# Altium integrated library Atmel Communication ICs.IntLib: 82 symbols (part 1 of 3)
Pins are listed as number, name and electrical type; pins without a type are passive.

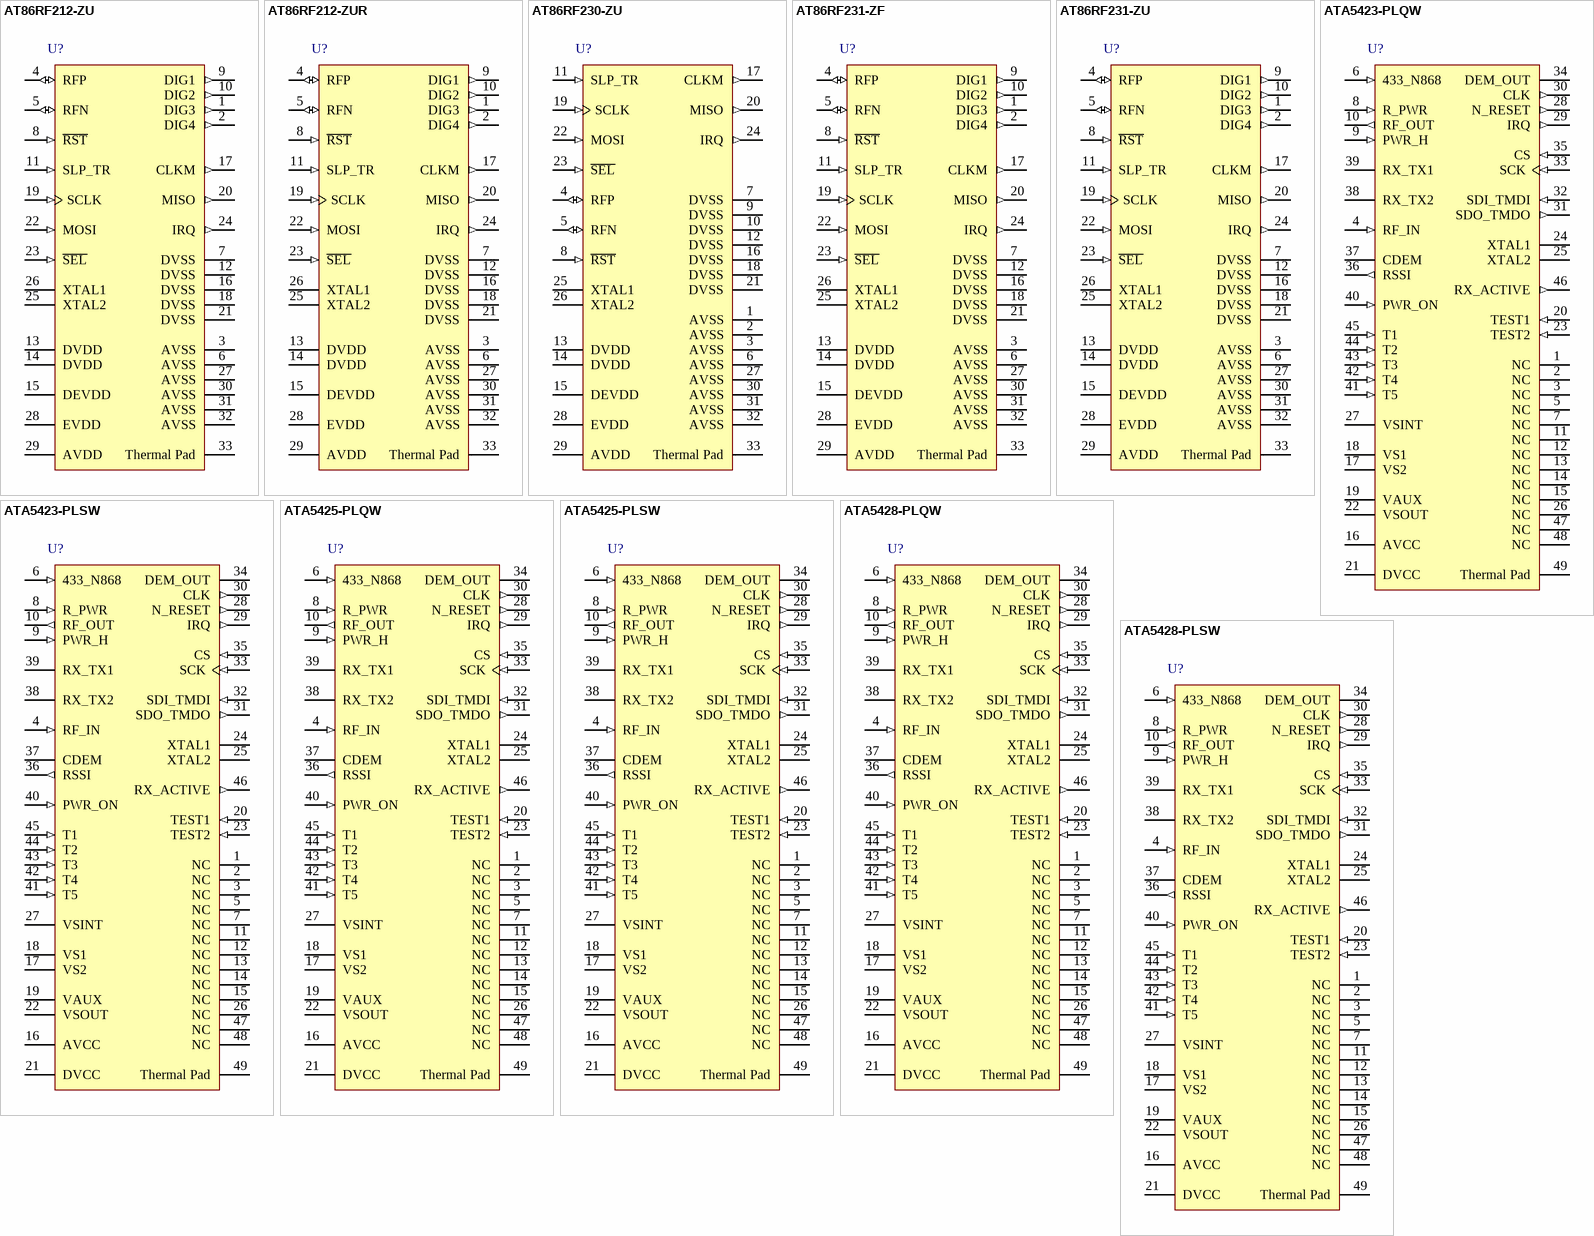
[diagram p0: symbols AT86RF212-ZU to ATA5428-PLSW]

## AT86RF212-ZU
designator U?
AVR Low Power 700/800/900 MHz Transceiver, 32-Pin QFN Pkg, Industrial Temp, Tray, Pb-Free, Halogen-Free; Published: 20-Sep-2010; DatasheetVersion: revC, Feb-2010; PackageVersion: revA, Nov-2007; PackageReference: 32QN2; Publisher: Altium Limited; PackageDescription: 32-Pin Quad Flat No-Lead (QFN) Sawn,  5 x 5 x 1.0 mm Body, Pitch 0.50 mm, 3.10mm Exposed Pad; Supplier 1: Digi-Key; Supplier Part Number 1: AT86RF212-ZU-ND; Supplier 2: Farnell; Supplier Part Number 2: 1748492; Supplier 3: Mouser; Supplier Part Number 3: 556-AT86RF212-ZU; Code_JEDEC: MO-220VHHD-6; ComponentLink1Description: AT86RF212 Datasheet; ComponentLink1URL: http://www.atmel.com/dyn/resources/prod_documents/doc8168.pdf; ComponentLink2Description: Atmel.com Home; ComponentLink2URL: http://www.atmel.com
footprint 32QN2_N (QFN, 32-Leads, Body 5x5mm, Pitch 0.5mm, IPC Medium Density)
footprint 32QN2_L (QFN, 32-Leads, Body 5x5mm, Pitch 0.5mm, IPC High Density)
footprint 32QN2_M (QFN, 32-Leads, Body 5x5mm, Pitch 0.5mm, IPC Low Density)
pins: 1 DIG3 (out), 2 DIG4 (out), 3 AVSS (power), 4 RFP (io), 5 RFN (io), 6 AVSS (power), 7 DVSS (power), 8 ~{RST} (in), 9 DIG1 (out), 10 DIG2 (out), 11 SLP_TR (in), 12 DVSS (power), 13 DVDD (power), 14 DVDD (power), 15 DEVDD (power), 16 DVSS (power), 17 CLKM (out), 18 DVSS (power), 19 SCLK (in), 20 MISO (out), 21 DVSS (power), 22 MOSI (in), 23 ~{SEL} (in), 24 IRQ (out), 25 XTAL2, 26 XTAL1, 27 AVSS (power), 28 EVDD (power), 29 AVDD (power), 30 AVSS (power), 31 AVSS (power), 32 AVSS (power), 33 Thermal Pad (power)

## AT86RF212-ZUR
designator U?
AVR Low Power 700/800/900 MHz Transceiver, 32-Pin QFN Pkg, Industrial Temp, Tape and Reel, Pb-Free, Halogen-Free, 5000 pcs; Published: 20-Sep-2010; DatasheetVersion: revC, Feb-2010; PackageVersion: revA, Nov-2007; PackageReference: 32QN2; Publisher: Altium Limited; PackageDescription: 32-Pin Quad Flat No-Lead (QFN) Sawn,  5 x 5 x 1.0 mm Body, Pitch 0.50 mm, 3.10mm Exposed Pad; Supplier 1: Digi-Key; Supplier Part Number 1: AT86RF212-ZUR-ND; Supplier 2: Mouser; Supplier Part Number 2: 556-AT86RF212-ZUR; Code_JEDEC: MO-220VHHD-6; ComponentLink1Description: AT86RF212 Datasheet; ComponentLink1URL: http://www.atmel.com/dyn/resources/prod_documents/doc8168.pdf; ComponentLink2Description: Atmel.com Home; ComponentLink2URL: http://www.atmel.com
footprint 32QN2_N (QFN, 32-Leads, Body 5x5mm, Pitch 0.5mm, IPC Medium Density)
footprint 32QN2_L (QFN, 32-Leads, Body 5x5mm, Pitch 0.5mm, IPC High Density)
footprint 32QN2_M (QFN, 32-Leads, Body 5x5mm, Pitch 0.5mm, IPC Low Density)
pins: 1 DIG3 (out), 2 DIG4 (out), 3 AVSS (power), 4 RFP (io), 5 RFN (io), 6 AVSS (power), 7 DVSS (power), 8 ~{RST} (in), 9 DIG1 (out), 10 DIG2 (out), 11 SLP_TR (in), 12 DVSS (power), 13 DVDD (power), 14 DVDD (power), 15 DEVDD (power), 16 DVSS (power), 17 CLKM (out), 18 DVSS (power), 19 SCLK (in), 20 MISO (out), 21 DVSS (power), 22 MOSI (in), 23 ~{SEL} (in), 24 IRQ (out), 25 XTAL2, 26 XTAL1, 27 AVSS (power), 28 EVDD (power), 29 AVDD (power), 30 AVSS (power), 31 AVSS (power), 32 AVSS (power), 33 Thermal Pad (power)

## AT86RF230-ZU
designator U?
AVR Low Power 2.4 GHz Transceiver, 32-Pin QFN Pkg, Industrial Temp, Tape and Reel, Pb-Free, Halogen-Free, 5000 pcs; Published: 20-Sep-2010; DatasheetVersion: revE, Feb-2009; PackageVersion: revA, Nov-2007; PackageReference: 32QN2; Publisher: Altium Limited; PackageDescription: 32-Pin Quad Flat No-Lead (QFN) Sawn,  5 x 5 x 1.0 mm Body, Pitch 0.50 mm, 3.10mm Exposed Pad; Supplier 1: Digi-Key; Supplier Part Number 1: AT86RF230-ZU-ND; Supplier 2: Farnell; Supplier Part Number 2: 1349117; Supplier 3: Mouser; Supplier Part Number 3: 556-A86RF230-ZU; Code_JEDEC: MO-220VHHD-6; ComponentLink1Description: AT86RF230 Datasheet; ComponentLink1URL: http://www.atmel.com/dyn/resources/prod_documents/doc5131.pdf; ComponentLink2Description: Atmel.com Home; ComponentLink2URL: http://www.atmel.com
footprint 32QN2_N (QFN, 32-Leads, Body 5x5mm, Pitch 0.5mm, IPC Medium Density)
footprint 32QN2_L (QFN, 32-Leads, Body 5x5mm, Pitch 0.5mm, IPC High Density)
footprint 32QN2_M (QFN, 32-Leads, Body 5x5mm, Pitch 0.5mm, IPC Low Density)
pins: 1 AVSS (power), 2 AVSS (power), 3 AVSS (power), 4 RFP (io), 5 RFN (io), 6 AVSS (power), 7 DVSS (power), 8 ~{RST} (in), 9 DVSS (power), 10 DVSS (power), 11 SLP_TR (in), 12 DVSS (power), 13 DVDD (power), 14 DVDD (power), 15 DEVDD (power), 16 DVSS (power), 17 CLKM (out), 18 DVSS (power), 19 SCLK (in), 20 MISO (out), 21 DVSS (power), 22 MOSI (in), 23 ~{SEL} (in), 24 IRQ (out), 25 XTAL1, 26 XTAL2, 27 AVSS (power), 28 EVDD (power), 29 AVDD (power), 30 AVSS (power), 31 AVSS (power), 32 AVSS (power), 33 Thermal Pad (power)

## AT86RF231-ZF
designator U?
AVR Low Power 2.4 GHz Transceiver, 32-Pin QFN Pkg, Industrial Temp (-40 to +125 degC), Tape and Reel, Pb-Free, Halogen-Free, 5000 pcs; Published: 20-Sep-2010; DatasheetVersion: revC, Sep-2009; PackageVersion: revA, Nov-2007; PackageReference: 32QN2; Publisher: Altium Limited; PackageDescription: 32-Pin Quad Flat No-Lead (QFN) Sawn,  5 x 5 x 1.0 mm Body, Pitch 0.50 mm, 3.10mm Exposed Pad; Supplier 1: Digi-Key; Supplier Part Number 1: AT86RF231-ZF-ND; Supplier 2: Mouser; Supplier Part Number 2: 556-AT86RF231-ZF; Code_JEDEC: MO-220VHHD-6; ComponentLink1Description: AT86RF231 Datasheet; ComponentLink1URL: http://www.atmel.com/dyn/resources/prod_documents/doc8111.pdf; ComponentLink2Description: Atmel.com Home; ComponentLink2URL: http://www.atmel.com
footprint 32QN2_N (QFN, 32-Leads, Body 5x5mm, Pitch 0.5mm, IPC Medium Density)
footprint 32QN2_L (QFN, 32-Leads, Body 5x5mm, Pitch 0.5mm, IPC High Density)
footprint 32QN2_M (QFN, 32-Leads, Body 5x5mm, Pitch 0.5mm, IPC Low Density)
pins: 1 DIG3 (out), 2 DIG4 (out), 3 AVSS (power), 4 RFP (io), 5 RFN (io), 6 AVSS (power), 7 DVSS (power), 8 ~{RST} (in), 9 DIG1 (out), 10 DIG2 (out), 11 SLP_TR (in), 12 DVSS (power), 13 DVDD (power), 14 DVDD (power), 15 DEVDD (power), 16 DVSS (power), 17 CLKM (out), 18 DVSS (power), 19 SCLK (in), 20 MISO (out), 21 DVSS (power), 22 MOSI (in), 23 ~{SEL} (in), 24 IRQ (out), 25 XTAL2, 26 XTAL1, 27 AVSS (power), 28 EVDD (power), 29 AVDD (power), 30 AVSS (power), 31 AVSS (power), 32 AVSS (power), 33 Thermal Pad (power)

## AT86RF231-ZU
designator U?
AVR Low Power 2.4 GHz Transceiver, 32-Pin QFN Pkg, Industrial Temp (-40 to +85 degC), Tape and Reel, Pb-Free, Halogen-Free, 5000 pcs; Published: 20-Sep-2010; DatasheetVersion: revC, Sep-2009; PackageVersion: revA, Nov-2007; PackageReference: 32QN2; Publisher: Altium Limited; PackageDescription: 32-Pin Quad Flat No-Lead (QFN) Sawn,  5 x 5 x 1.0 mm Body, Pitch 0.50 mm, 3.10mm Exposed Pad; Supplier 1: Digi-Key; Supplier Part Number 1: AT86RF231-ZU-ND; Supplier 2: Farnell; Supplier Part Number 2: 1748493; Supplier 3: Mouser; Supplier Part Number 3: 556-AT86RF231-ZU; Code_JEDEC: MO-220VHHD-6; ComponentLink1Description: AT86RF231 Datasheet; ComponentLink1URL: http://www.atmel.com/dyn/resources/prod_documents/doc8111.pdf; ComponentLink2Description: Atmel.com Home; ComponentLink2URL: http://www.atmel.com
footprint 32QN2_N (QFN, 32-Leads, Body 5x5mm, Pitch 0.5mm, IPC Medium Density)
footprint 32QN2_L (QFN, 32-Leads, Body 5x5mm, Pitch 0.5mm, IPC High Density)
footprint 32QN2_M (QFN, 32-Leads, Body 5x5mm, Pitch 0.5mm, IPC Low Density)
pins: 1 DIG3 (out), 2 DIG4 (out), 3 AVSS (power), 4 RFP (io), 5 RFN (io), 6 AVSS (power), 7 DVSS (power), 8 ~{RST} (in), 9 DIG1 (out), 10 DIG2 (out), 11 SLP_TR (in), 12 DVSS (power), 13 DVDD (power), 14 DVDD (power), 15 DEVDD (power), 16 DVSS (power), 17 CLKM (out), 18 DVSS (power), 19 SCLK (in), 20 MISO (out), 21 DVSS (power), 22 MOSI (in), 23 ~{SEL} (in), 24 IRQ (out), 25 XTAL2, 26 XTAL1, 27 AVSS (power), 28 EVDD (power), 29 AVDD (power), 30 AVSS (power), 31 AVSS (power), 32 AVSS (power), 33 Thermal Pad (power)

## ATA5423-PLQW
designator U?
UHF Transceiver for ASK and FSK Systems, 315 MHz, 48-Pin QFN Pkg, Taped and Reeled + Dry Pack; Published: 20-Sep-2010; DatasheetVersion: revD, Oct-2007; PackageVersion: rev1, Jan-2003; PackageReference: 48QFN7X7; Publisher: Altium Limited; PackageDescription: 48-Pin Quad Flat No-Lead, Sawn, 7 x 7 x 1 mm Body, 0.5 mm Pitch, 5.1 mm Exposed Pad; Supplier 1: Digi-Key; Supplier Part Number 1: ATA5423-PLQWTR-ND; Supplier 2: Digi-Key; Supplier Part Number 2: ATA5423-PLQWCT-ND; Supplier 3: Digi-Key; Supplier Part Number 3: ATA5423-PLQWDKR-ND; Supplier 4: Mouser; Supplier Part Number 4: 556-ATA5423-PLQW; ComponentLink1Description: ATA5423 Datasheet; ComponentLink1URL: http://www.atmel.com/dyn/resources/prod_documents/doc4841.pdf; ComponentLink2Description: Atmel.com Home; ComponentLink2URL: http://www.atmel.com
footprint 48QFN7X7_N (QFN, 48-Leads, Body 7x7mm, Pitch 0.5mm, IPC Medium Density)
footprint 48QFN7X7_L (QFN, 48-Leads, Body 7x7mm, Pitch 0.5mm, IPC High Density)
footprint 48QFN7X7_M (QFN, 48-Leads, Body 7x7mm, Pitch 0.5mm, IPC Low Density)
pins: 1 NC, 2 NC, 3 NC, 4 RF_IN (in), 5 NC, 6 433_N868 (in), 7 NC, 8 R_PWR (in), 9 PWR_H (in), 10 RF_OUT (out), 11 NC, 12 NC, 13 NC, 14 NC, 15 NC, 16 AVCC (power), 17 VS2 (power), 18 VS1 (power), 19 VAUX (power), 20 TEST1 (in), 21 DVCC (power), 22 VSOUT (power), 23 TEST2 (in), 24 XTAL1, 25 XTAL2, 26 NC, 27 VSINT (power), 28 N_RESET (out), 29 IRQ (out), 30 CLK (out), 31 SDO_TMDO (out), 32 SDI_TMDI (in), 33 SCK (in), 34 DEM_OUT (oe), 35 CS (in), 36 RSSI (out), 37 CDEM, 38 RX_TX2, 39 RX_TX1, 40 PWR_ON (in), 41 T5 (in), 42 T4 (in), 43 T3 (in), 44 T2 (in), 45 T1 (in), 46 RX_ACTIVE (out), 47 NC, 48 NC, 49 Thermal Pad (power)

## ATA5423-PLSW
designator U?
UHF Transceiver for ASK and FSK Systems, 315 MHz, 48-Pin QFN Pkg, Tubes + Dry Pack; Published: 20-Sep-2010; DatasheetVersion: revD, Oct-2007; PackageVersion: rev1, Jan-2003; PackageReference: 48QFN7X7; Publisher: Altium Limited; PackageDescription: 48-Pin Quad Flat No-Lead, Sawn, 7 x 7 x 1 mm Body, 0.5 mm Pitch, 5.1 mm Exposed Pad; Supplier 1: Digi-Key; Supplier Part Number 1: ATA5423-PLSW-ND; Supplier 2: Mouser; Supplier Part Number 2: 556-ATA5423-PLSW; ComponentLink1Description: ATA5423 Datasheet; ComponentLink1URL: http://www.atmel.com/dyn/resources/prod_documents/doc4841.pdf; ComponentLink2Description: Atmel.com Home; ComponentLink2URL: http://www.atmel.com
footprint 48QFN7X7_N (QFN, 48-Leads, Body 7x7mm, Pitch 0.5mm, IPC Medium Density)
footprint 48QFN7X7_L (QFN, 48-Leads, Body 7x7mm, Pitch 0.5mm, IPC High Density)
footprint 48QFN7X7_M (QFN, 48-Leads, Body 7x7mm, Pitch 0.5mm, IPC Low Density)
pins: 1 NC, 2 NC, 3 NC, 4 RF_IN (in), 5 NC, 6 433_N868 (in), 7 NC, 8 R_PWR (in), 9 PWR_H (in), 10 RF_OUT (out), 11 NC, 12 NC, 13 NC, 14 NC, 15 NC, 16 AVCC (power), 17 VS2 (power), 18 VS1 (power), 19 VAUX (power), 20 TEST1 (in), 21 DVCC (power), 22 VSOUT (power), 23 TEST2 (in), 24 XTAL1, 25 XTAL2, 26 NC, 27 VSINT (power), 28 N_RESET (out), 29 IRQ (out), 30 CLK (out), 31 SDO_TMDO (out), 32 SDI_TMDI (in), 33 SCK (in), 34 DEM_OUT (oe), 35 CS (in), 36 RSSI (out), 37 CDEM, 38 RX_TX2, 39 RX_TX1, 40 PWR_ON (in), 41 T5 (in), 42 T4 (in), 43 T3 (in), 44 T2 (in), 45 T1 (in), 46 RX_ACTIVE (out), 47 NC, 48 NC, 49 Thermal Pad (power)

## ATA5425-PLQW
designator U?
UHF Transceiver for ASK and FSK Systems, 345 MHz, 48-Pin QFN Pkg, Taped and Reeled + Dry Pack; Published: 20-Sep-2010; DatasheetVersion: revD, Oct-2007; PackageVersion: rev1, Jan-2003; PackageReference: 48QFN7X7; Publisher: Altium Limited; PackageDescription: 48-Pin Quad Flat No-Lead, Sawn, 7 x 7 x 1 mm Body, 0.5 mm Pitch, 5.1 mm Exposed Pad; Supplier 1: Digi-Key; Supplier Part Number 1: ATA5425-PLQWTR-ND; Supplier 2: Digi-Key; Supplier Part Number 2: ATA5425-PLQWCT-ND; Supplier 3: Digi-Key; Supplier Part Number 3: ATA5425-PLQWDKR-ND; Supplier 4: Mouser; Supplier Part Number 4: 556-ATA5425-PLQW; ComponentLink1Description: ATA5425 Datasheet; ComponentLink1URL: http://www.atmel.com/dyn/resources/prod_documents/doc4841.pdf; ComponentLink2Description: Atmel.com Home; ComponentLink2URL: http://www.atmel.com
footprint 48QFN7X7_N (QFN, 48-Leads, Body 7x7mm, Pitch 0.5mm, IPC Medium Density)
footprint 48QFN7X7_L (QFN, 48-Leads, Body 7x7mm, Pitch 0.5mm, IPC High Density)
footprint 48QFN7X7_M (QFN, 48-Leads, Body 7x7mm, Pitch 0.5mm, IPC Low Density)
pins: 1 NC, 2 NC, 3 NC, 4 RF_IN (in), 5 NC, 6 433_N868 (in), 7 NC, 8 R_PWR (in), 9 PWR_H (in), 10 RF_OUT (out), 11 NC, 12 NC, 13 NC, 14 NC, 15 NC, 16 AVCC (power), 17 VS2 (power), 18 VS1 (power), 19 VAUX (power), 20 TEST1 (in), 21 DVCC (power), 22 VSOUT (power), 23 TEST2 (in), 24 XTAL1, 25 XTAL2, 26 NC, 27 VSINT (power), 28 N_RESET (out), 29 IRQ (out), 30 CLK (out), 31 SDO_TMDO (out), 32 SDI_TMDI (in), 33 SCK (in), 34 DEM_OUT (oe), 35 CS (in), 36 RSSI (out), 37 CDEM, 38 RX_TX2, 39 RX_TX1, 40 PWR_ON (in), 41 T5 (in), 42 T4 (in), 43 T3 (in), 44 T2 (in), 45 T1 (in), 46 RX_ACTIVE (out), 47 NC, 48 NC, 49 Thermal Pad (power)

## ATA5425-PLSW
designator U?
UHF Transceiver for ASK and FSK Systems, 345 MHz, 48-Pin QFN Pkg, Tubes + Dry Pack; Published: 20-Sep-2010; DatasheetVersion: revD, Oct-2007; PackageVersion: rev1, Jan-2003; PackageReference: 48QFN7X7; Publisher: Altium Limited; PackageDescription: 48-Pin Quad Flat No-Lead, Sawn, 7 x 7 x 1 mm Body, 0.5 mm Pitch, 5.1 mm Exposed Pad; Supplier 1: Digi-Key; Supplier Part Number 1: ATA5425-PLSW-ND; Supplier 2: Mouser; Supplier Part Number 2: 556-ATA5425-PLSW; ComponentLink1Description: ATA5425 Datasheet; ComponentLink1URL: http://www.atmel.com/dyn/resources/prod_documents/doc4841.pdf; ComponentLink2Description: Atmel.com Home; ComponentLink2URL: http://www.atmel.com
footprint 48QFN7X7_N (QFN, 48-Leads, Body 7x7mm, Pitch 0.5mm, IPC Medium Density)
footprint 48QFN7X7_L (QFN, 48-Leads, Body 7x7mm, Pitch 0.5mm, IPC High Density)
footprint 48QFN7X7_M (QFN, 48-Leads, Body 7x7mm, Pitch 0.5mm, IPC Low Density)
pins: 1 NC, 2 NC, 3 NC, 4 RF_IN (in), 5 NC, 6 433_N868 (in), 7 NC, 8 R_PWR (in), 9 PWR_H (in), 10 RF_OUT (out), 11 NC, 12 NC, 13 NC, 14 NC, 15 NC, 16 AVCC (power), 17 VS2 (power), 18 VS1 (power), 19 VAUX (power), 20 TEST1 (in), 21 DVCC (power), 22 VSOUT (power), 23 TEST2 (in), 24 XTAL1, 25 XTAL2, 26 NC, 27 VSINT (power), 28 N_RESET (out), 29 IRQ (out), 30 CLK (out), 31 SDO_TMDO (out), 32 SDI_TMDI (in), 33 SCK (in), 34 DEM_OUT (oe), 35 CS (in), 36 RSSI (out), 37 CDEM, 38 RX_TX2, 39 RX_TX1, 40 PWR_ON (in), 41 T5 (in), 42 T4 (in), 43 T3 (in), 44 T2 (in), 45 T1 (in), 46 RX_ACTIVE (out), 47 NC, 48 NC, 49 Thermal Pad (power)

## ATA5428-PLQW
designator U?
UHF Transceiver for ASK and FSK Systems, 433 MHz or 868 MHz, 48-Pin QFN Pkg, Taped and Reeled + Dry Pack; Published: 20-Sep-2010; DatasheetVersion: revD, Oct-2007; PackageVersion: rev1, Jan-2003; PackageReference: 48QFN7X7; Publisher: Altium Limited; PackageDescription: 48-Pin Quad Flat No-Lead, Sawn, 7 x 7 x 1 mm Body, 0.5 mm Pitch, 5.1 mm Exposed Pad; Supplier 1: Digi-Key; Supplier Part Number 1: ATA5428-PLQWCT-ND; Supplier 2: Digi-Key; Supplier Part Number 2: ATA5428-PLQWDKR-ND; Supplier 3: Mouser; Supplier Part Number 3: 556-ATA5428-PLQW; ComponentLink1Description: ATA5428 Datasheet; ComponentLink1URL: http://www.atmel.com/dyn/resources/prod_documents/doc4841.pdf; ComponentLink2Description: Atmel.com Home; ComponentLink2URL: http://www.atmel.com
footprint 48QFN7X7_N (QFN, 48-Leads, Body 7x7mm, Pitch 0.5mm, IPC Medium Density)
footprint 48QFN7X7_L (QFN, 48-Leads, Body 7x7mm, Pitch 0.5mm, IPC High Density)
footprint 48QFN7X7_M (QFN, 48-Leads, Body 7x7mm, Pitch 0.5mm, IPC Low Density)
pins: 1 NC, 2 NC, 3 NC, 4 RF_IN (in), 5 NC, 6 433_N868 (in), 7 NC, 8 R_PWR (in), 9 PWR_H (in), 10 RF_OUT (out), 11 NC, 12 NC, 13 NC, 14 NC, 15 NC, 16 AVCC (power), 17 VS2 (power), 18 VS1 (power), 19 VAUX (power), 20 TEST1 (in), 21 DVCC (power), 22 VSOUT (power), 23 TEST2 (in), 24 XTAL1, 25 XTAL2, 26 NC, 27 VSINT (power), 28 N_RESET (out), 29 IRQ (out), 30 CLK (out), 31 SDO_TMDO (out), 32 SDI_TMDI (in), 33 SCK (in), 34 DEM_OUT (oe), 35 CS (in), 36 RSSI (out), 37 CDEM, 38 RX_TX2, 39 RX_TX1, 40 PWR_ON (in), 41 T5 (in), 42 T4 (in), 43 T3 (in), 44 T2 (in), 45 T1 (in), 46 RX_ACTIVE (out), 47 NC, 48 NC, 49 Thermal Pad (power)

## ATA5428-PLSW
designator U?
UHF Transceiver for ASK and FSK Systems, 433 MHz or 868 MHz, 48-Pin QFN Pkg, Tubes + Dry Pack; Published: 20-Sep-2010; DatasheetVersion: revD, Oct-2007; PackageVersion: rev1, Jan-2003; PackageReference: 48QFN7X7; Publisher: Altium Limited; PackageDescription: 48-Pin Quad Flat No-Lead, Sawn, 7 x 7 x 1 mm Body, 0.5 mm Pitch, 5.1 mm Exposed Pad; Supplier 1: Mouser; Supplier Part Number 1: 556-ATA5428-PLSW; ComponentLink1Description: ATA5428 Datasheet; ComponentLink1URL: http://www.atmel.com/dyn/resources/prod_documents/doc4841.pdf; ComponentLink2Description: Atmel.com Home; ComponentLink2URL: http://www.atmel.com
footprint 48QFN7X7_N (QFN, 48-Leads, Body 7x7mm, Pitch 0.5mm, IPC Medium Density)
footprint 48QFN7X7_L (QFN, 48-Leads, Body 7x7mm, Pitch 0.5mm, IPC High Density)
footprint 48QFN7X7_M (QFN, 48-Leads, Body 7x7mm, Pitch 0.5mm, IPC Low Density)
pins: 1 NC, 2 NC, 3 NC, 4 RF_IN (in), 5 NC, 6 433_N868 (in), 7 NC, 8 R_PWR (in), 9 PWR_H (in), 10 RF_OUT (out), 11 NC, 12 NC, 13 NC, 14 NC, 15 NC, 16 AVCC (power), 17 VS2 (power), 18 VS1 (power), 19 VAUX (power), 20 TEST1 (in), 21 DVCC (power), 22 VSOUT (power), 23 TEST2 (in), 24 XTAL1, 25 XTAL2, 26 NC, 27 VSINT (power), 28 N_RESET (out), 29 IRQ (out), 30 CLK (out), 31 SDO_TMDO (out), 32 SDI_TMDI (in), 33 SCK (in), 34 DEM_OUT (oe), 35 CS (in), 36 RSSI (out), 37 CDEM, 38 RX_TX2, 39 RX_TX1, 40 PWR_ON (in), 41 T5 (in), 42 T4 (in), 43 T3 (in), 44 T2 (in), 45 T1 (in), 46 RX_ACTIVE (out), 47 NC, 48 NC, 49 Thermal Pad (power)

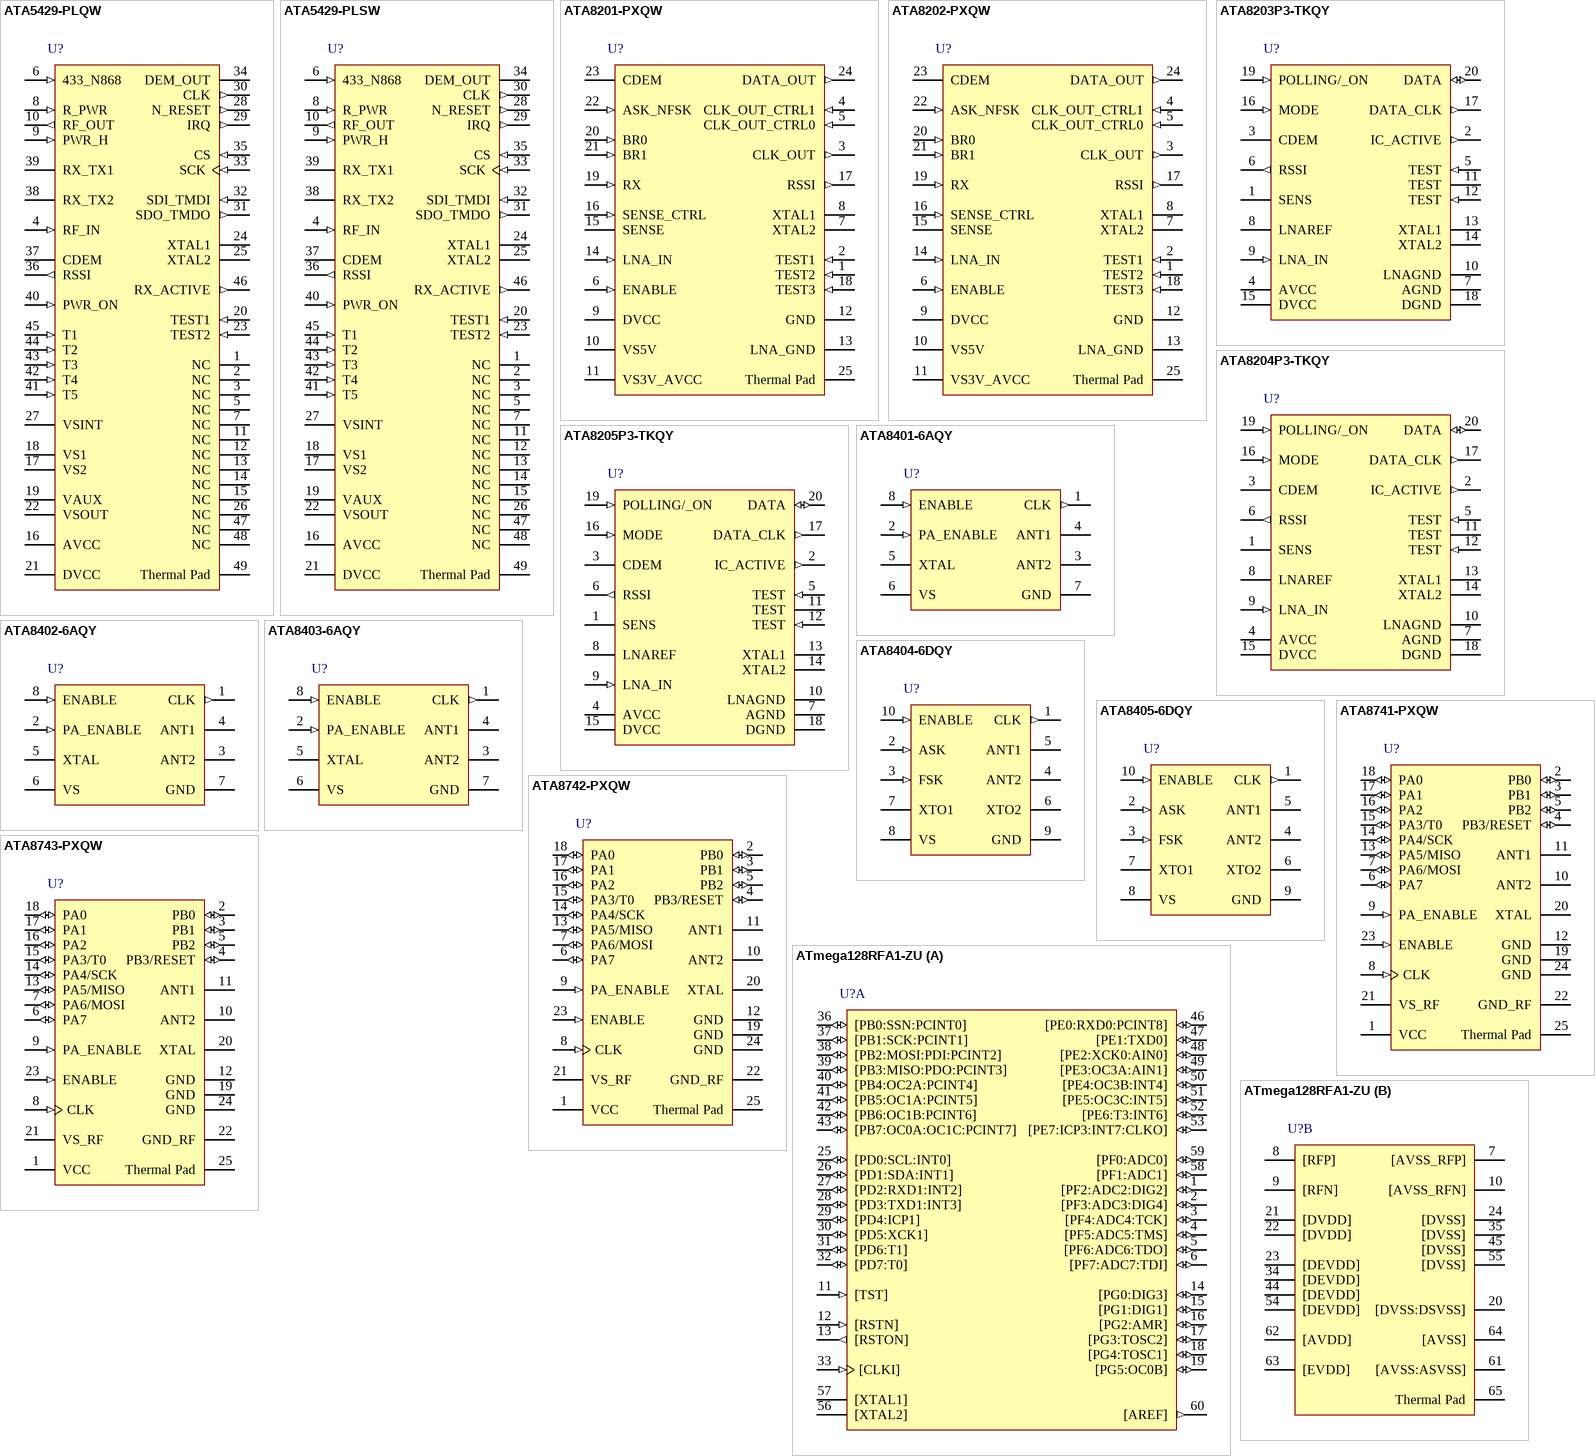
[diagram p1: symbols ATA5429-PLQW to ATmega128RFA1-ZU]

## ATA5429-PLQW
designator U?
UHF Transceiver for ASK and FSK Systems, 915 MHz, 48-Pin QFN Pkg, Taped and Reeled + Dry Pack; Published: 20-Sep-2010; DatasheetVersion: revD, Oct-2007; PackageVersion: rev1, Jan-2003; PackageReference: 48QFN7X7; Publisher: Altium Limited; PackageDescription: 48-Pin Quad Flat No-Lead, Sawn, 7 x 7 x 1 mm Body, 0.5 mm Pitch, 5.1 mm Exposed Pad; Supplier 1: Digi-Key; Supplier Part Number 1: ATA5429-PLQWTR-ND; Supplier 2: Digi-Key; Supplier Part Number 2: ATA5429-PLQWCT-ND; Supplier 3: Digi-Key; Supplier Part Number 3: ATA5429-PLQWDKR-ND; Supplier 4: Mouser; Supplier Part Number 4: 556-ATA5429-PLQW; ComponentLink1Description: ATA5429 Datasheet; ComponentLink1URL: http://www.atmel.com/dyn/resources/prod_documents/doc4841.pdf; ComponentLink2Description: Atmel.com Home; ComponentLink2URL: http://www.atmel.com
footprint 48QFN7X7_N (QFN, 48-Leads, Body 7x7mm, Pitch 0.5mm, IPC Medium Density)
footprint 48QFN7X7_L (QFN, 48-Leads, Body 7x7mm, Pitch 0.5mm, IPC High Density)
footprint 48QFN7X7_M (QFN, 48-Leads, Body 7x7mm, Pitch 0.5mm, IPC Low Density)
pins: 1 NC, 2 NC, 3 NC, 4 RF_IN (in), 5 NC, 6 433_N868 (in), 7 NC, 8 R_PWR (in), 9 PWR_H (in), 10 RF_OUT (out), 11 NC, 12 NC, 13 NC, 14 NC, 15 NC, 16 AVCC (power), 17 VS2 (power), 18 VS1 (power), 19 VAUX (power), 20 TEST1 (in), 21 DVCC (power), 22 VSOUT (power), 23 TEST2 (in), 24 XTAL1, 25 XTAL2, 26 NC, 27 VSINT (power), 28 N_RESET (out), 29 IRQ (out), 30 CLK (out), 31 SDO_TMDO (out), 32 SDI_TMDI (in), 33 SCK (in), 34 DEM_OUT (oe), 35 CS (in), 36 RSSI (out), 37 CDEM, 38 RX_TX2, 39 RX_TX1, 40 PWR_ON (in), 41 T5 (in), 42 T4 (in), 43 T3 (in), 44 T2 (in), 45 T1 (in), 46 RX_ACTIVE (out), 47 NC, 48 NC, 49 Thermal Pad (power)

## ATA5429-PLSW
designator U?
UHF Transceiver for ASK and FSK Systems, 915 MHz, 48-Pin QFN Pkg, Tubes + Dry Pack; Published: 20-Sep-2010; DatasheetVersion: revD, Oct-2007; PackageVersion: rev1, Jan-2003; PackageReference: 48QFN7X7; Publisher: Altium Limited; PackageDescription: 48-Pin Quad Flat No-Lead, Sawn, 7 x 7 x 1 mm Body, 0.5 mm Pitch, 5.1 mm Exposed Pad; Supplier 1: Digi-Key; Supplier Part Number 1: ATA5429-PLSW-ND; Supplier 2: Mouser; Supplier Part Number 2: 556-ATA5429-PLSW; ComponentLink1Description: ATA5429 Datasheet; ComponentLink1URL: http://www.atmel.com/dyn/resources/prod_documents/doc4841.pdf; ComponentLink2Description: Atmel.com Home; ComponentLink2URL: http://www.atmel.com
footprint 48QFN7X7_N (QFN, 48-Leads, Body 7x7mm, Pitch 0.5mm, IPC Medium Density)
footprint 48QFN7X7_L (QFN, 48-Leads, Body 7x7mm, Pitch 0.5mm, IPC High Density)
footprint 48QFN7X7_M (QFN, 48-Leads, Body 7x7mm, Pitch 0.5mm, IPC Low Density)
pins: 1 NC, 2 NC, 3 NC, 4 RF_IN (in), 5 NC, 6 433_N868 (in), 7 NC, 8 R_PWR (in), 9 PWR_H (in), 10 RF_OUT (out), 11 NC, 12 NC, 13 NC, 14 NC, 15 NC, 16 AVCC (power), 17 VS2 (power), 18 VS1 (power), 19 VAUX (power), 20 TEST1 (in), 21 DVCC (power), 22 VSOUT (power), 23 TEST2 (in), 24 XTAL1, 25 XTAL2, 26 NC, 27 VSINT (power), 28 N_RESET (out), 29 IRQ (out), 30 CLK (out), 31 SDO_TMDO (out), 32 SDI_TMDI (in), 33 SCK (in), 34 DEM_OUT (oe), 35 CS (in), 36 RSSI (out), 37 CDEM, 38 RX_TX2, 39 RX_TX1, 40 PWR_ON (in), 41 T5 (in), 42 T4 (in), 43 T3 (in), 44 T2 (in), 45 T1 (in), 46 RX_ACTIVE (out), 47 NC, 48 NC, 49 Thermal Pad (power)

## ATA8201-PXQW
designator U?
315 MHz UHF ASK/FSK Receiver, 24-Pin QFN Pkg, Pb-Free, 6000 pcs; Published: 20-Sep-2010; DatasheetVersion: revC, Apr-2009; PackageVersion: rev1, Nov-2005; PackageReference: 24QFN5X5; Publisher: Altium Limited; PackageDescription: 24-Pin Quad Flat No-Lead, 5 x 5 mm Body, 0.65 mm Pitch, 3.6 x 3.6 mm Exposed Pad; Supplier 1: Digi-Key; Supplier Part Number 1: ATA8201-PXQW-ND; Supplier 2: Mouser; Supplier Part Number 2: 556-ATA8201-PXQW; Code_JEDEC: MO-220; Code_IPC: QFN65P500X500-24V1; ComponentLink1Description: ATA8201 Datasheet; ComponentLink1URL: http://www.atmel.com/dyn/resources/prod_documents/doc4971.pdf; ComponentLink2Description: Atmel.com Home; ComponentLink2URL: http://www.atmel.com
footprint 24QFN5X5_N (QFN, 24-Leads, Body 5x5 mm, Pitch 0.65mm, IPC Medium Density)
footprint 24QFN5X5_L (QFN, 24-Leads, Body 5x5 mm, Pitch 0.65mm, IPC High Density)
footprint 24QFN5X5_M (QFN, 24-Leads, Body 5x5 mm, Pitch 0.65mm, IPC Low Density)
pins: 1 TEST2 (in), 2 TEST1 (in), 3 CLK_OUT (out), 4 CLK_OUT_CTRL1 (in), 5 CLK_OUT_CTRL0 (in), 6 ENABLE (in), 7 XTAL2, 8 XTAL1, 9 DVCC (power), 10 VS5V (power), 11 VS3V_AVCC (power), 12 GND (power), 13 LNA_GND (power), 14 LNA_IN (in), 15 SENSE, 16 SENSE_CTRL (in), 17 RSSI (out), 18 TEST3 (in), 19 RX (in), 20 BR0 (in), 21 BR1 (in), 22 ASK_NFSK (in), 23 CDEM, 24 DATA_OUT (out), 25 Thermal Pad (power)

## ATA8202-PXQW
designator U?
433.92 MHz UHF ASK/FSK Receiver, 24-Pin QFN Pkg, Pb-Free, 6000 pcs; Published: 20-Sep-2010; DatasheetVersion: revC, Apr-2009; PackageVersion: rev1, Nov-2005; PackageReference: 24QFN5X5; Publisher: Altium Limited; PackageDescription: 24-Pin Quad Flat No-Lead, 5 x 5 mm Body, 0.65 mm Pitch, 3.6 x 3.6 mm Exposed Pad; Supplier 1: Mouser; Supplier Part Number 1: 556-ATA8202-PXQW; Code_JEDEC: MO-220; Code_IPC: QFN65P500X500-24V1; ComponentLink1Description: ATA8202 Datasheet; ComponentLink1URL: http://www.atmel.com/dyn/resources/prod_documents/doc4971.pdf; ComponentLink2Description: Atmel.com Home; ComponentLink2URL: http://www.atmel.com
footprint 24QFN5X5_N (QFN, 24-Leads, Body 5x5 mm, Pitch 0.65mm, IPC Medium Density)
footprint 24QFN5X5_L (QFN, 24-Leads, Body 5x5 mm, Pitch 0.65mm, IPC High Density)
footprint 24QFN5X5_M (QFN, 24-Leads, Body 5x5 mm, Pitch 0.65mm, IPC Low Density)
pins: 1 TEST2 (in), 2 TEST1 (in), 3 CLK_OUT (out), 4 CLK_OUT_CTRL1 (in), 5 CLK_OUT_CTRL0 (in), 6 ENABLE (in), 7 XTAL2, 8 XTAL1, 9 DVCC (power), 10 VS5V (power), 11 VS3V_AVCC (power), 12 GND (power), 13 LNA_GND (power), 14 LNA_IN (in), 15 SENSE, 16 SENSE_CTRL (in), 17 RSSI (out), 18 TEST3 (in), 19 RX (in), 20 BR0 (in), 21 BR1 (in), 22 ASK_NFSK (in), 23 CDEM, 24 DATA_OUT (out), 25 Thermal Pad (power)

## ATA8203P3-TKQY
designator U?
315 MHz Industrial UHF ASK/FSK Receiver, 20-Pin SSOP Pkg, MOQ 4000; Published: 20-Sep-2010; DatasheetVersion: revB, Apr-2009; PackageVersion: 2005; PackageReference: SSO20; Publisher: Altium Limited; PackageDescription: 20-Pin Shrink SOP, 6.6 x 4.4 x 1.3 mm Body, 0.65 mm Pitch; Supplier 1: Digi-Key; Supplier Part Number 1: ATA8203P3-TKQY-ND; Supplier 2: Mouser; Supplier Part Number 2: 556-ATA8203P3-TKQY; ComponentLink1Description: ATA8203P3 Datasheet; ComponentLink1URL: http://www.atmel.com/dyn/resources/prod_documents/doc9121.pdf; ComponentLink2Description: Atmel.com Home; ComponentLink2URL: http://www.atmel.com
footprint SSO20_N (SOP, 20-Leads, Body 6.6x4.4mm, Pitch 0.65mm, IPC Medium Density)
footprint SSO20_L (SOP, 20-Leads, Body 6.6x4.4mm, Pitch 0.65mm, IPC High Density)
footprint SSO20_M (SOP, 20-Leads, Body 6.6x4.4mm, Pitch 0.65mm, IPC Low Density)
pins: 1 SENS, 2 IC_ACTIVE (out), 3 CDEM, 4 AVCC (power), 5 TEST (in), 6 RSSI (out), 7 AGND (power), 8 LNAREF, 9 LNA_IN (in), 10 LNAGND (power), 11 TEST, 12 TEST (in), 13 XTAL1, 14 XTAL2, 15 DVCC (power), 16 MODE (in), 17 DATA_CLK (out), 18 DGND (power), 19 POLLING/_ON (in), 20 DATA (io)

## ATA8204P3-TKQY
designator U?
433 MHz Industrial UHF ASK/FSK Receiver, 20-Pin SSOP Pkg, MOQ 4000; Published: 20-Sep-2010; DatasheetVersion: revB, Apr-2009; PackageVersion: 2005; PackageReference: SSO20; Publisher: Altium Limited; PackageDescription: 20-Pin Shrink SOP, 6.6 x 4.4 x 1.3 mm Body, 0.65 mm Pitch; Supplier 1: Digi-Key; Supplier Part Number 1: ATA8204P3-TKQY-ND; Supplier 2: Mouser; Supplier Part Number 2: 556-ATA8204P3-TKQY; ComponentLink1Description: ATA8204P3 Datasheet; ComponentLink1URL: http://www.atmel.com/dyn/resources/prod_documents/doc9121.pdf; ComponentLink2Description: Atmel.com Home; ComponentLink2URL: http://www.atmel.com
footprint SSO20_N (SOP, 20-Leads, Body 6.6x4.4mm, Pitch 0.65mm, IPC Medium Density)
footprint SSO20_L (SOP, 20-Leads, Body 6.6x4.4mm, Pitch 0.65mm, IPC High Density)
footprint SSO20_M (SOP, 20-Leads, Body 6.6x4.4mm, Pitch 0.65mm, IPC Low Density)
pins: 1 SENS, 2 IC_ACTIVE (out), 3 CDEM, 4 AVCC (power), 5 TEST (in), 6 RSSI (out), 7 AGND (power), 8 LNAREF, 9 LNA_IN (in), 10 LNAGND (power), 11 TEST, 12 TEST (in), 13 XTAL1, 14 XTAL2, 15 DVCC (power), 16 MODE (in), 17 DATA_CLK (out), 18 DGND (power), 19 POLLING/_ON (in), 20 DATA (io)

## ATA8205P3-TKQY
designator U?
868 MHz Industrial UHF ASK/FSK Receiver, 20-Pin SSOP Pkg, MOQ 4000; Published: 20-Sep-2010; DatasheetVersion: revB, Apr-2009; PackageVersion: 2005; PackageReference: SSO20; Publisher: Altium Limited; PackageDescription: 20-Pin Shrink SOP, 6.6 x 4.4 x 1.3 mm Body, 0.65 mm Pitch; ComponentLink1Description: ATA8205P3 Datasheet; ComponentLink1URL: http://www.atmel.com/dyn/resources/prod_documents/doc9121.pdf; ComponentLink2Description: Atmel.com Home; ComponentLink2URL: http://www.atmel.com
footprint SSO20_N (SOP, 20-Leads, Body 6.6x4.4mm, Pitch 0.65mm, IPC Medium Density)
footprint SSO20_L (SOP, 20-Leads, Body 6.6x4.4mm, Pitch 0.65mm, IPC High Density)
footprint SSO20_M (SOP, 20-Leads, Body 6.6x4.4mm, Pitch 0.65mm, IPC Low Density)
pins: 1 SENS, 2 IC_ACTIVE (out), 3 CDEM, 4 AVCC (power), 5 TEST (in), 6 RSSI (out), 7 AGND (power), 8 LNAREF, 9 LNA_IN (in), 10 LNAGND (power), 11 TEST, 12 TEST (in), 13 XTAL1, 14 XTAL2, 15 DVCC (power), 16 MODE (in), 17 DATA_CLK (out), 18 DGND (power), 19 POLLING/_ON (in), 20 DATA (io)

## ATA8401-6AQY
designator U?
310 to 350 MHz UHF ASK/FSK Industrial Transmitter, 8-Pin TSSOP Pkg, Taped and Reeled, MOQ 5000 pcs, Pb-Free; Published: 20-Sep-2010; DatasheetVersion: revC, Apr-2009; PackageVersion: rev2, Mar-2004; PackageReference: TSSOP8L; Publisher: Altium Limited; PackageDescription: 8-Pin Thin Shrink Small Outline Package, 3 x 3 mm Body, 0.65 mm Pitch (TSSOP); Supplier 1: Digi-Key; Supplier Part Number 1: ATA8401-6AQY-ND; Supplier 2: Mouser; Supplier Part Number 2: 556-ATA8401-6AQY; ComponentLink1Description: ATA8401 Datasheet; ComponentLink1URL: http://www.atmel.com/dyn/resources/prod_documents/doc4984.pdf; ComponentLink2Description: Atmel.com Home; ComponentLink2URL: http://www.atmel.com
footprint TSSOP8L_N (TSOP, 8-Leads, Body 3x3mm, Pitch 0.65mm, IPC Medium Density)
footprint TSSOP8L_L (TSOP, 8-Leads, Body 3x3mm, Pitch 0.65mm, IPC High Density)
footprint TSSOP8L_M (TSOP, 8-Leads, Body 3x3mm, Pitch 0.65mm, IPC Low Density)
pins: 1 CLK (out), 2 PA_ENABLE (in), 3 ANT2 (oe), 4 ANT1 (oc), 5 XTAL, 6 VS (power), 7 GND (power), 8 ENABLE (in)

## ATA8402-6AQY
designator U?
429 to 439 MHz UHF ASK/FSK Industrial Transmitter, 8-Pin TSSOP Pkg, Taped and Reeled, MOQ 5000 pcs, Pb-Free; Published: 20-Sep-2010; DatasheetVersion: revC, Apr-2009; PackageVersion: rev2, Mar-2004; PackageReference: TSSOP8L; Publisher: Altium Limited; PackageDescription: 8-Pin Thin Shrink Small Outline Package, 3 x 3 mm Body, 0.65 mm Pitch (TSSOP); Supplier 1: Digi-Key; Supplier Part Number 1: ATA8402-6AQY-ND; Supplier 2: Mouser; Supplier Part Number 2: 556-ATA8402-6AQY; ComponentLink1Description: ATA8402 Datasheet; ComponentLink1URL: http://www.atmel.com/dyn/resources/prod_documents/doc4982.pdf; ComponentLink2Description: Atmel.com Home; ComponentLink2URL: http://www.atmel.com
footprint TSSOP8L_N (TSOP, 8-Leads, Body 3x3mm, Pitch 0.65mm, IPC Medium Density)
footprint TSSOP8L_L (TSOP, 8-Leads, Body 3x3mm, Pitch 0.65mm, IPC High Density)
footprint TSSOP8L_M (TSOP, 8-Leads, Body 3x3mm, Pitch 0.65mm, IPC Low Density)
pins: 1 CLK (out), 2 PA_ENABLE (in), 3 ANT2 (oe), 4 ANT1 (oc), 5 XTAL, 6 VS (power), 7 GND (power), 8 ENABLE (in)

## ATA8403-6AQY
designator U?
868 to 928 MHz UHF ASK/FSK Industrial Transmitter, 8-Pin TSSOP Pkg, Taped and Reeled, MOQ 5000 pcs, Pb-Free; Published: 20-Sep-2010; DatasheetVersion: revB, Oct-2008; PackageVersion: rev2, Mar-2004; PackageReference: TSSOP8L; Publisher: Altium Limited; PackageDescription: 8-Pin Thin Shrink Small Outline Package, 3 x 3 mm Body, 0.65 mm Pitch (TSSOP); Supplier 1: Digi-Key; Supplier Part Number 1: ATA8403-6AQY-ND; Supplier 2: Mouser; Supplier Part Number 2: 556-ATA8403-6AQY; ComponentLink1Description: ATA8403 Datasheet; ComponentLink1URL: http://www.atmel.com/dyn/resources/prod_documents/doc4983.pdf; ComponentLink2Description: Atmel.com Home; ComponentLink2URL: http://www.atmel.com
footprint TSSOP8L_N (TSOP, 8-Leads, Body 3x3mm, Pitch 0.65mm, IPC Medium Density)
footprint TSSOP8L_L (TSOP, 8-Leads, Body 3x3mm, Pitch 0.65mm, IPC High Density)
footprint TSSOP8L_M (TSOP, 8-Leads, Body 3x3mm, Pitch 0.65mm, IPC Low Density)
pins: 1 CLK (out), 2 PA_ENABLE (in), 3 ANT2 (oe), 4 ANT1 (oc), 5 XTAL, 6 VS (power), 7 GND (power), 8 ENABLE (in)

## ATA8404-6DQY
designator U?
313 to 317 MHz UHF ASK/FSK Industrial Transmitter, 10-Pin TSSOP Pkg, Pb-Free; Published: 20-Sep-2010; DatasheetVersion: revC, Oct-2009; PackageVersion: rev3, Sep-2005; PackageReference: TSSOP10; Publisher: Altium Limited; PackageDescription: 10-Pin Thin Shrink Small Outline Package, 3 x 3 mm Body, 0.5 mm Pitch (TSSOP); Supplier 1: Digi-Key; Supplier Part Number 1: ATA8404-6DQY-ND; Supplier 2: Mouser; Supplier Part Number 2: 556-ATA8404-6DQY; Code_JEDEC: MO-187; ComponentLink1Description: ATA8404 Datasheet; ComponentLink1URL: http://www.atmel.com/dyn/resources/prod_documents/doc9136.pdf; ComponentLink2Description: Atmel.com Home; ComponentLink2URL: http://www.atmel.com
footprint TSSOP10_N (TSSOP, 10-Leads, Body 3x3mm, Pitch 0.5mm, IPC Medium Density)
footprint TSSOP10_L (TSSOP, 10-Leads, Body 3x3mm, Pitch 0.5mm, IPC High Density)
footprint TSSOP10_M (TSSOP, 10-Leads, Body 3x3mm, Pitch 0.5mm, IPC Low Density)
pins: 1 CLK (out), 2 ASK (in), 3 FSK (in), 4 ANT2 (oe), 5 ANT1 (oc), 6 XTO2, 7 XTO1, 8 VS (power), 9 GND (power), 10 ENABLE (in)

## ATA8405-6DQY
designator U?
432 to 448 MHz, UHF ASK/FSK Industrial Transmitter, 10-Pin TSSOP Pkg, Pb-Free; Published: 20-Sep-2010; DatasheetVersion: revC, Oct-2009; PackageVersion: rev3, Sep-2005; PackageReference: TSSOP10; Publisher: Altium Limited; PackageDescription: 10-Pin Thin Shrink Small Outline Package, 3 x 3 mm Body, 0.5 mm Pitch (TSSOP); Supplier 1: Digi-Key; Supplier Part Number 1: ATA8405-6DQY-ND; Supplier 2: Mouser; Supplier Part Number 2: 556-ATA8405-6DQY; Code_JEDEC: MO-187; ComponentLink1Description: ATA8405 Datasheet; ComponentLink1URL: http://www.atmel.com/dyn/resources/prod_documents/doc9136.pdf; ComponentLink2Description: Atmel.com Home; ComponentLink2URL: http://www.atmel.com
footprint TSSOP10_N (TSSOP, 10-Leads, Body 3x3mm, Pitch 0.5mm, IPC Medium Density)
footprint TSSOP10_L (TSSOP, 10-Leads, Body 3x3mm, Pitch 0.5mm, IPC High Density)
footprint TSSOP10_M (TSSOP, 10-Leads, Body 3x3mm, Pitch 0.5mm, IPC Low Density)
pins: 1 CLK (out), 2 ASK (in), 3 FSK (in), 4 ANT2 (oe), 5 ANT1 (oc), 6 XTO2, 7 XTO1, 8 VS (power), 9 GND (power), 10 ENABLE (in)

## ATA8741-PXQW
designator U?
Microcontroller with UHF Tx for 310 MHz to 350 MHz, 24-Pin QFN Pkg; Published: 20-Sep-2010; DatasheetVersion: revC, Feb-2010; PackageVersion: rev1, Nov-2005; PackageReference: 24QFN5X5; Publisher: Altium Limited; PackageDescription: 24-Pin Quad Flat No-Lead, 5 x 5 mm Body, 0.65 mm Pitch, 3.6 x 3.6 mm Exposed Pad; Supplier 1: Digi-Key; Supplier Part Number 1: ATA8741-PXQW-ND; Supplier 2: Mouser; Supplier Part Number 2: 556-ATA8741-PXQW; Code_JEDEC: MO-220; Code_IPC: QFN65P500X500-24V1; ComponentLink1Description: ATA8741 Datasheet; ComponentLink1URL: http://www.atmel.com/dyn/resources/prod_documents/doc9140.pdf; ComponentLink2Description: Atmel.com Home; ComponentLink2URL: http://www.atmel.com
footprint 24QFN5X5_N (QFN, 24-Leads, Body 5x5 mm, Pitch 0.65mm, IPC Medium Density)
footprint 24QFN5X5_L (QFN, 24-Leads, Body 5x5 mm, Pitch 0.65mm, IPC High Density)
footprint 24QFN5X5_M (QFN, 24-Leads, Body 5x5 mm, Pitch 0.65mm, IPC Low Density)
pins: 1 VCC (power), 2 PB0 (io), 3 PB1 (io), 4 PB3/RESET (io), 5 PB2 (io), 6 PA7 (io), 7 PA6/MOSI (io), 8 CLK (in), 9 PA_ENABLE (in), 10 ANT2 (oe), 11 ANT1 (oc), 12 GND (power), 13 PA5/MISO (io), 14 PA4/SCK (io), 15 PA3/T0 (io), 16 PA2 (io), 17 PA1 (io), 18 PA0 (io), 19 GND (power), 20 XTAL, 21 VS_RF (power), 22 GND_RF (power), 23 ENABLE (in), 24 GND (power), 25 Thermal Pad (power)

## ATA8742-PXQW
designator U?
Microcontroller with UHF Tx for 429 MHz to 439 MHz, 24-Pin QFN Pkg; Published: 20-Sep-2010; DatasheetVersion: revA, Jul-2009; PackageVersion: rev1, Nov-2005; PackageReference: 24QFN5X5; Publisher: Altium Limited; PackageDescription: 24-Pin Quad Flat No-Lead, 5 x 5 mm Body, 0.65 mm Pitch, 3.6 x 3.6 mm Exposed Pad; Supplier 1: Digi-Key; Supplier Part Number 1: ATA8742-PXQW-ND; Supplier 2: Mouser; Supplier Part Number 2: 556-ATA8742-PXQW; Code_JEDEC: MO-220; Code_IPC: QFN65P500X500-24V1; ComponentLink1Description: ATA8742 Datasheet; ComponentLink1URL: http://www.atmel.com/dyn/resources/prod_documents/doc9151.pdf; ComponentLink2Description: Atmel.com Home; ComponentLink2URL: http://www.atmel.com
footprint 24QFN5X5_N (QFN, 24-Leads, Body 5x5 mm, Pitch 0.65mm, IPC Medium Density)
footprint 24QFN5X5_L (QFN, 24-Leads, Body 5x5 mm, Pitch 0.65mm, IPC High Density)
footprint 24QFN5X5_M (QFN, 24-Leads, Body 5x5 mm, Pitch 0.65mm, IPC Low Density)
pins: 1 VCC (power), 2 PB0 (io), 3 PB1 (io), 4 PB3/RESET (io), 5 PB2 (io), 6 PA7 (io), 7 PA6/MOSI (io), 8 CLK (in), 9 PA_ENABLE (in), 10 ANT2 (oe), 11 ANT1 (oc), 12 GND (power), 13 PA5/MISO (io), 14 PA4/SCK (io), 15 PA3/T0 (io), 16 PA2 (io), 17 PA1 (io), 18 PA0 (io), 19 GND (power), 20 XTAL, 21 VS_RF (power), 22 GND_RF (power), 23 ENABLE (in), 24 GND (power), 25 Thermal Pad (power)

## ATA8743-PXQW
designator U?
Microcontroller with UHF Tx for 868 MHz to 928 MHz, 24-Pin QFN Pkg; Published: 20-Sep-2010; DatasheetVersion: revB, Feb-2010; PackageVersion: rev1, Nov-2005; PackageReference: 24QFN5X5; Publisher: Altium Limited; PackageDescription: 24-Pin Quad Flat No-Lead, 5 x 5 mm Body, 0.65 mm Pitch, 3.6 x 3.6 mm Exposed Pad; Supplier 1: Digi-Key; Supplier Part Number 1: ATA8743-PXQW-ND; Supplier 2: Mouser; Supplier Part Number 2: 556-ATA8743-PXQW; Code_JEDEC: MO-220; Code_IPC: QFN65P500X500-24V1; ComponentLink1Description: ATA8743 Datasheet; ComponentLink1URL: http://www.atmel.com/dyn/resources/prod_documents/doc9152.pdf; ComponentLink2Description: Atmel.com Home; ComponentLink2URL: http://www.atmel.com
footprint 24QFN5X5_N (QFN, 24-Leads, Body 5x5 mm, Pitch 0.65mm, IPC Medium Density)
footprint 24QFN5X5_L (QFN, 24-Leads, Body 5x5 mm, Pitch 0.65mm, IPC High Density)
footprint 24QFN5X5_M (QFN, 24-Leads, Body 5x5 mm, Pitch 0.65mm, IPC Low Density)
pins: 1 VCC (power), 2 PB0 (io), 3 PB1 (io), 4 PB3/RESET (io), 5 PB2 (io), 6 PA7 (io), 7 PA6/MOSI (io), 8 CLK (in), 9 PA_ENABLE (in), 10 ANT2 (oe), 11 ANT1 (oc), 12 GND (power), 13 PA5/MISO (io), 14 PA4/SCK (io), 15 PA3/T0 (io), 16 PA2 (io), 17 PA1 (io), 18 PA0 (io), 19 GND (power), 20 XTAL, 21 VS_RF (power), 22 GND_RF (power), 23 ENABLE (in), 24 GND (power), 25 Thermal Pad (power)

## ATmega128RFA1-ZU
designator U?
8-bit AVR Microcontroller with Low Power 2.4GHz RF Transceiver, 64-Pin QFN Pkg, Industrial Temp, Tray, Pb-Free; Published: 20-Sep-2010; DatasheetVersion: revA, Dec-2009; PackageVersion: revA, Feb-2008; PackageReference: 64PI; Publisher: Altium Limited; PackageDescription: 64-Pin Quad Flat No-Lead (QFN), 9 x 9 mm Body, 0.5 mm Pitch, 5.65 x 4.75 mm Exposed Pad; Supplier 1: Digi-Key; Supplier Part Number 1: ATMEGA128RFA1-ZU-ND; Supplier 2: Mouser; Supplier Part Number 2: 556-ATMEGA128RFA1-ZU; ComponentLink1Description: ATmega128RFA1 Datasheet; ComponentLink1URL: http://www.atmel.com/dyn/resources/prod_documents/doc8266.pdf; ComponentLink2Description: Atmel.com Home; ComponentLink2URL: http://www.atmel.com
footprint 64PI_N (QFN, 64-Leads, Body 9x9mm, Pitch 0.5mm, IPC Medium Density)
footprint 64PI_L (QFN, 64-Leads, Body 9x9mm, Pitch 0.5mm, IPC High Density)
footprint 64PI_M (QFN, 64-Leads, Body 9x9mm, Pitch 0.5mm, IPC Low Density)
part A pins: 1 [PF2:ADC2:DIG2] (io), 2 [PF3:ADC3:DIG4] (io), 3 [PF4:ADC4:TCK] (io), 4 [PF5:ADC5:TMS] (io), 5 [PF6:ADC6:TDO] (io), 6 [PF7:ADC7:TDI] (io), 11 [TST] (in), 12 [RSTN] (in), 13 [RSTON] (out), 14 [PG0:DIG3] (io), 15 [PG1:DIG1] (io), 16 [PG2:AMR] (io), 17 [PG3:TOSC2] (io), 18 [PG4:TOSC1] (io), 19 [PG5:OC0B] (io), 25 [PD0:SCL:INT0] (io), 26 [PD1:SDA:INT1] (io), 27 [PD2:RXD1:INT2] (io), 28 [PD3:TXD1:INT3] (io), 29 [PD4:ICP1] (io), 30 [PD5:XCK1] (io), 31 [PD6:T1] (io), 32 [PD7:T0] (io), 33 [CLKI] (in), 36 [PB0:SSN:PCINT0] (io), 37 [PB1:SCK:PCINT1] (io), 38 [PB2:MOSI:PDI:PCINT2] (io), 39 [PB3:MISO:PDO:PCINT3] (io), 40 [PB4:OC2A:PCINT4] (io), 41 [PB5:OC1A:PCINT5] (io), 42 [PB6:OC1B:PCINT6] (io), 43 [PB7:OC0A:OC1C:PCINT7] (io), 46 [PE0:RXD0:PCINT8] (io), 47 [PE1:TXD0] (io), 48 [PE2:XCK0:AIN0] (io), 49 [PE3:OC3A:AIN1] (io), 50 [PE4:OC3B:INT4] (io), 51 [PE5:OC3C:INT5] (io), 52 [PE6:T3:INT6] (io), 53 [PE7:ICP3:INT7:CLKO] (io), 56 [XTAL2], 57 [XTAL1], 58 [PF1:ADC1] (io), 59 [PF0:ADC0] (io), 60 [AREF] (out)
part B pins: 7 [AVSS_RFP] (power), 8 [RFP] (power), 9 [RFN] (power), 10 [AVSS_RFN] (power), 20 [DVSS:DSVSS] (power), 21 [DVDD] (power), 22 [DVDD] (power), 23 [DEVDD] (power), 24 [DVSS] (power), 34 [DEVDD] (power), 35 [DVSS] (power), 44 [DEVDD] (power), 45 [DVSS] (power), 54 [DEVDD] (power), 55 [DVSS] (power), 61 [AVSS:ASVSS] (power), 62 [AVDD] (power), 63 [EVDD] (power), 64 [AVSS] (power), 65 Thermal Pad (power)

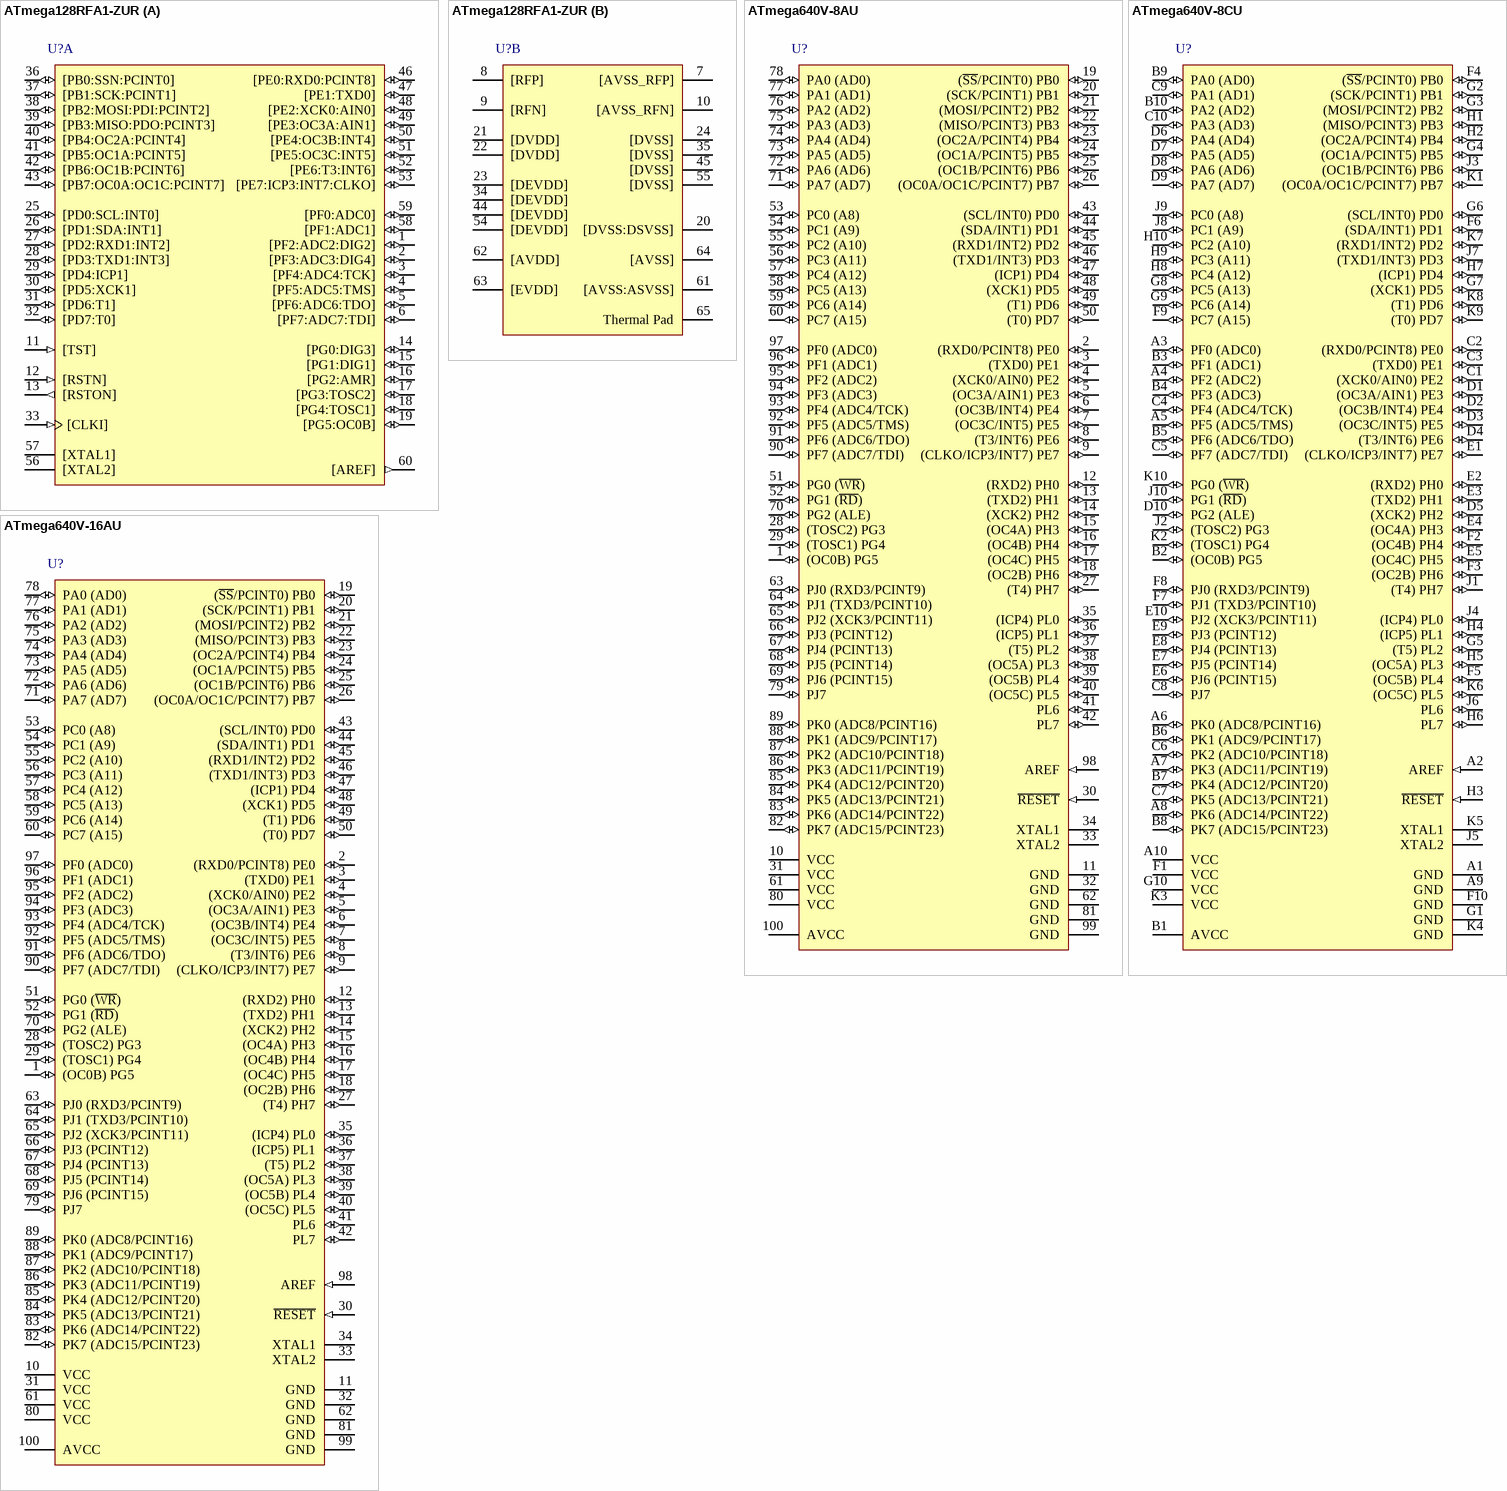
[diagram p2: symbols ATmega128RFA1-ZUR to ATmega640V-16AU]

## ATmega128RFA1-ZUR
designator U?
8-bit AVR Microcontroller with Low Power 2.4GHz RF Transceiver, 64-Pin QFN Pkg, Industrial Temp, Tape and Reel, Pb-Free; Published: 20-Sep-2010; DatasheetVersion: revA, Dec-2009; PackageVersion: revA, Feb-2008; PackageReference: 64PI; Publisher: Altium Limited; PackageDescription: 64-Pin Quad Flat No-Lead (QFN), 9 x 9 mm Body, 0.5 mm Pitch, 5.65 x 4.75 mm Exposed Pad; Supplier 1: Digi-Key; Supplier Part Number 1: ATMEGA128RFA1-ZUR-ND; Supplier 2: Mouser; Supplier Part Number 2: 556-ATMEGA128RFA1ZUR; ComponentLink1Description: ATmega128RFA1 Datasheet; ComponentLink1URL: http://www.atmel.com/dyn/resources/prod_documents/doc8266.pdf; ComponentLink2Description: Atmel.com Home; ComponentLink2URL: http://www.atmel.com
footprint 64PI_N (QFN, 64-Leads, Body 9x9mm, Pitch 0.5mm, IPC Medium Density)
footprint 64PI_L (QFN, 64-Leads, Body 9x9mm, Pitch 0.5mm, IPC High Density)
footprint 64PI_M (QFN, 64-Leads, Body 9x9mm, Pitch 0.5mm, IPC Low Density)
part A pins: 1 [PF2:ADC2:DIG2] (io), 2 [PF3:ADC3:DIG4] (io), 3 [PF4:ADC4:TCK] (io), 4 [PF5:ADC5:TMS] (io), 5 [PF6:ADC6:TDO] (io), 6 [PF7:ADC7:TDI] (io), 11 [TST] (in), 12 [RSTN] (in), 13 [RSTON] (out), 14 [PG0:DIG3] (io), 15 [PG1:DIG1] (io), 16 [PG2:AMR] (io), 17 [PG3:TOSC2] (io), 18 [PG4:TOSC1] (io), 19 [PG5:OC0B] (io), 25 [PD0:SCL:INT0] (io), 26 [PD1:SDA:INT1] (io), 27 [PD2:RXD1:INT2] (io), 28 [PD3:TXD1:INT3] (io), 29 [PD4:ICP1] (io), 30 [PD5:XCK1] (io), 31 [PD6:T1] (io), 32 [PD7:T0] (io), 33 [CLKI] (in), 36 [PB0:SSN:PCINT0] (io), 37 [PB1:SCK:PCINT1] (io), 38 [PB2:MOSI:PDI:PCINT2] (io), 39 [PB3:MISO:PDO:PCINT3] (io), 40 [PB4:OC2A:PCINT4] (io), 41 [PB5:OC1A:PCINT5] (io), 42 [PB6:OC1B:PCINT6] (io), 43 [PB7:OC0A:OC1C:PCINT7] (io), 46 [PE0:RXD0:PCINT8] (io), 47 [PE1:TXD0] (io), 48 [PE2:XCK0:AIN0] (io), 49 [PE3:OC3A:AIN1] (io), 50 [PE4:OC3B:INT4] (io), 51 [PE5:OC3C:INT5] (io), 52 [PE6:T3:INT6] (io), 53 [PE7:ICP3:INT7:CLKO] (io), 56 [XTAL2], 57 [XTAL1], 58 [PF1:ADC1] (io), 59 [PF0:ADC0] (io), 60 [AREF] (out)
part B pins: 7 [AVSS_RFP] (power), 8 [RFP] (power), 9 [RFN] (power), 10 [AVSS_RFN] (power), 20 [DVSS:DSVSS] (power), 21 [DVDD] (power), 22 [DVDD] (power), 23 [DEVDD] (power), 24 [DVSS] (power), 34 [DEVDD] (power), 35 [DVSS] (power), 44 [DEVDD] (power), 45 [DVSS] (power), 54 [DEVDD] (power), 55 [DVSS] (power), 61 [AVSS:ASVSS] (power), 62 [AVDD] (power), 63 [EVDD] (power), 64 [AVSS] (power), 65 Thermal Pad (power)

## ATmega640V-8AU
designator U?
8 MHz 8-bit AVR Microcontroller with 64KB Flash, 100-Pin TQFP Pkg, 86 I/Os, 12x PWMs, 4x USARTs, 16 ADC Channels, Industrial Temp; Published: 20-Sep-2010; DatasheetVersion: revL, Aug-2007; PackageVersion: revC, Oct-2001; PackageReference: 100A; Publisher: Altium Limited; PackageDescription: 100-Pin Thin Profile Plastic Quad Flat Pack (TQFP), 14 x 14 x 1.0 mm Body, 0.5 mm Pitch; Supplier 1: Digi-Key; Supplier Part Number 1: ATMEGA640V-8AU-ND; Supplier 2: Farnell; Supplier Part Number 2: 1455119; Supplier 3: Mouser; Supplier Part Number 3: 556-ATMEGA640V8AU; Code_JEDEC: MS-026-AED; ComponentLink1Description: ATmega640V Datasheet; ComponentLink1URL: http://www.atmel.com/dyn/resources/prod_documents/doc2549.pdf; ComponentLink2Description: Atmel.com Home; ComponentLink2URL: http://www.atmel.com
footprint 100A_N (Thin QFP, 100-Leads, Body 14x14mm, Pitch 0.5mm, IPC Medium Density)
footprint 100A_L (Thin QFP, 100-Leads, Body 14x14mm, Pitch 0.5mm, IPC High Density)
footprint 100A_M (Thin QFP, 100-Leads, Body 14x14mm, Pitch 0.5mm, IPC Low Density)
pins: 1 (OC0B) PG5 (io), 2 (RXD0/PCINT8) PE0 (io), 3 (TXD0) PE1 (io), 4 (XCK0/AIN0) PE2 (io), 5 (OC3A/AIN1) PE3 (io), 6 (OC3B/INT4) PE4 (io), 7 (OC3C/INT5) PE5 (io), 8 (T3/INT6) PE6 (io), 9 (CLKO/ICP3/INT7) PE7 (io), 10 VCC (power), 11 GND (power), 12 (RXD2) PH0 (io), 13 (TXD2) PH1 (io), 14 (XCK2) PH2 (io), 15 (OC4A) PH3 (io), 16 (OC4B) PH4 (io), 17 (OC4C) PH5 (io), 18 (OC2B) PH6 (io), 19 (~{SS}/PCINT0) PB0 (io), 20 (SCK/PCINT1) PB1 (io), 21 (MOSI/PCINT2) PB2 (io), 22 (MISO/PCINT3) PB3 (io), 23 (OC2A/PCINT4) PB4 (io), 24 (OC1A/PCINT5) PB5 (io), 25 (OC1B/PCINT6) PB6 (io), 26 (OC0A/OC1C/PCINT7) PB7 (io), 27 (T4) PH7 (io), 28 (TOSC2) PG3 (io), 29 (TOSC1) PG4 (io), 30 ~{RESET} (in), 31 VCC (power), 32 GND (power), 33 XTAL2, 34 XTAL1, 35 (ICP4) PL0 (io), 36 (ICP5) PL1 (io), 37 (T5) PL2 (io), 38 (OC5A) PL3 (io), 39 (OC5B) PL4 (io), 40 (OC5C) PL5 (io), 41 PL6 (io), 42 PL7 (io), 43 (SCL/INT0) PD0 (io), 44 (SDA/INT1) PD1 (io), 45 (RXD1/INT2) PD2 (io), 46 (TXD1/INT3) PD3 (io), 47 (ICP1) PD4 (io), 48 (XCK1) PD5 (io), 49 (T1) PD6 (io), 50 (T0) PD7 (io), 51 PG0 (~{WR})  (io), 52 PG1 (~{RD})  (io), 53 PC0 (A8)  (io), 54 PC1 (A9)  (io), 55 PC2 (A10)  (io), 56 PC3 (A11)  (io), 57 PC4 (A12)  (io), 58 PC5 (A13)  (io), 59 PC6 (A14)  (io), 60 PC7 (A15)  (io), 61 VCC (power), 62 GND (power), 63 PJ0 (RXD3/PCINT9)  (io), 64 PJ1 (TXD3/PCINT10)  (io), 65 PJ2 (XCK3/PCINT11)  (io), 66 PJ3 (PCINT12)  (io), 67 PJ4 (PCINT13)  (io), 68 PJ5 (PCINT14)  (io), 69 PJ6 (PCINT15)  (io), 70 PG2 (ALE)  (io), 71 PA7 (AD7)  (io), 72 PA6 (AD6)  (io), 73 PA5 (AD5)  (io), 74 PA4 (AD4)  (io), 75 PA3 (AD3)  (io), 76 PA2 (AD2) (io), 77 PA1 (AD1) (io), 78 PA0 (AD0) (io), 79 PJ7 (io), 80 VCC (power), 81 GND (power), 82 PK7 (ADC15/PCINT23) (io), 83 PK6 (ADC14/PCINT22) (io), 84 PK5 (ADC13/PCINT21) (io), 85 PK4 (ADC12/PCINT20) (io), 86 PK3 (ADC11/PCINT19) (io), 87 PK2 (ADC10/PCINT18) (io), 88 PK1 (ADC9/PCINT17) (io), 89 PK0 (ADC8/PCINT16) (io), 90 PF7 (ADC7/TDI) (io), 91 PF6 (ADC6/TDO) (io), 92 PF5 (ADC5/TMS) (io), 93 PF4 (ADC4/TCK) (io), 94 PF3 (ADC3) (io), 95 PF2 (ADC2) (io), 96 PF1 (ADC1) (io), 97 PF0 (ADC0) (io), 98 AREF (in), 99 GND (power), 100 AVCC (power)

## ATmega640V-8CU
designator U?
8 MHz 8-bit AVR Microcontroller with 64KB Flash, 100-Ball CBGA Pkg, 86 I/Os, 12 PWMs, 4 USARTs, 16 ADC Channels, Industrial Temp; Published: 20-Sep-2010; DatasheetVersion: revL, Aug-2007; PackageVersion: revA, May-2006; PackageReference: 100C1; Publisher: Altium Limited; PackageDescription: 100-Ball Chip Array BGA Package (CBGA), 9 x 9 x1.2 mm Body, 0.80 mm Pitch; Supplier 1: Digi-Key; Supplier Part Number 1: ATMEGA640V-8CU-ND; Supplier 2: Mouser; Supplier Part Number 2: 556-ATMEGA640V8CU; ComponentLink1Description: ATmega640V Datasheet; ComponentLink1URL: http://www.atmel.com/dyn/resources/prod_documents/doc2549.pdf; ComponentLink2Description: Atmel.com Home; ComponentLink2URL: http://www.atmel.com
footprint 100C1 (BGA, 100-Leads, Body 9x9mm, Pitch 0.8mm)
pins: A1 GND (power), A2 AREF (in), A3 PF0 (ADC0) (io), A4 PF2 (ADC2) (io), A5 PF5 (ADC5/TMS) (io), A6 PK0 (ADC8/PCINT16) (io), A7 PK3 (ADC11/PCINT19) (io), A8 PK6 (ADC14/PCINT22) (io), A9 GND (power), A10 VCC (power), B1 AVCC (power), B2 (OC0B) PG5 (io), B3 PF1 (ADC1) (io), B4 PF3 (ADC3) (io), B5 PF6 (ADC6/TDO) (io), B6 PK1 (ADC9/PCINT17) (io), B7 PK4 (ADC12/PCINT20) (io), B8 PK7 (ADC15/PCINT23) (io), B9 PA0 (AD0) (io), B10 PA2 (AD2) (io), C1 (XCK0/AIN0) PE2 (io), C2 (RXD0/PCINT8) PE0 (io), C3 (TXD0) PE1 (io), C4 PF4 (ADC4/TCK) (io), C5 PF7 (ADC7/TDI) (io), C6 PK2 (ADC10/PCINT18) (io), C7 PK5 (ADC13/PCINT21) (io), C8 PJ7 (io), C9 PA1 (AD1) (io), C10 PA3 (AD3)  (io), D1 (OC3A/AIN1) PE3 (io), D2 (OC3B/INT4) PE4 (io), D3 (OC3C/INT5) PE5 (io), D4 (T3/INT6) PE6 (io), D5 (XCK2) PH2 (io), D6 PA4 (AD4)  (io), D7 PA5 (AD5)  (io), D8 PA6 (AD6)  (io), D9 PA7 (AD7)  (io), D10 PG2 (ALE)  (io), E1 (CLKO/ICP3/INT7) PE7 (io), E2 (RXD2) PH0 (io), E3 (TXD2) PH1 (io), E4 (OC4A) PH3 (io), E5 (OC4C) PH5 (io), E6 PJ6 (PCINT15)  (io), E7 PJ5 (PCINT14)  (io), E8 PJ4 (PCINT13)  (io), E9 PJ3 (PCINT12)  (io), E10 PJ2 (XCK3/PCINT11)  (io), F1 VCC (power), F2 (OC4B) PH4 (io), F3 (OC2B) PH6 (io), F4 (~{SS}/PCINT0) PB0 (io), F5 (OC5B) PL4 (io), F6 (SDA/INT1) PD1 (io), F7 PJ1 (TXD3/PCINT10)  (io), F8 PJ0 (RXD3/PCINT9)  (io), F9 PC7 (A15)  (io), F10 GND (power), G1 GND (power), G2 (SCK/PCINT1) PB1 (io), G3 (MOSI/PCINT2) PB2 (io), G4 (OC1A/PCINT5) PB5 (io), G5 (T5) PL2 (io), G6 (SCL/INT0) PD0 (io), G7 (XCK1) PD5 (io), G8 PC5 (A13)  (io), G9 PC6 (A14)  (io), G10 VCC (power), H1 (MISO/PCINT3) PB3 (io), H2 (OC2A/PCINT4) PB4 (io), H3 ~{RESET} (in), H4 (ICP5) PL1 (io), H5 (OC5A) PL3 (io), H6 PL7 (io), H7 (ICP1) PD4 (io), H8 PC4 (A12)  (io), H9 PC3 (A11)  (io), H10 PC2 (A10)  (io), J1 (T4) PH7 (io), J2 (TOSC2) PG3 (io), J3 (OC1B/PCINT6) PB6 (io), J4 (ICP4) PL0 (io), J5 XTAL2, J6 PL6 (io), J7 (TXD1/INT3) PD3 (io), J8 PC1 (A9)  (io), J9 PC0 (A8)  (io), J10 PG1 (~{RD})  (io), K1 (OC0A/OC1C/PCINT7) PB7 (io), K2 (TOSC1) PG4 (io), K3 VCC (power), K4 GND (power), K5 XTAL1, K6 (OC5C) PL5 (io), K7 (RXD1/INT2) PD2 (io), K8 (T1) PD6 (io), K9 (T0) PD7 (io), K10 PG0 (~{WR})  (io)